# EAGLE library part SM06B-SRSS-TB (library block_parts)
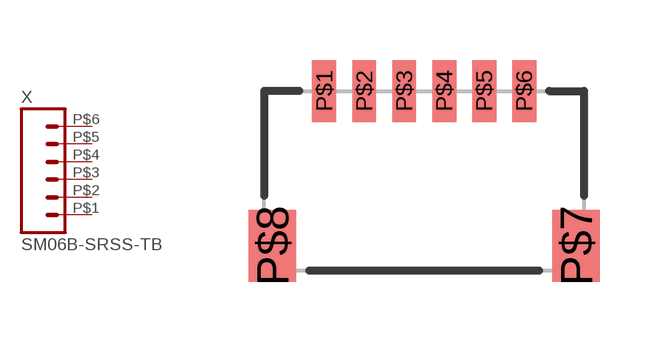
[diagram p1: symbol with the pads of SM06B-SRSS-TB; footprint SM06B-SRSS-TB]

Designator prefix X

## SM06B-SRSS-TB  [SM06B-SRSS-TB]
P$1  1  pas
P$2  2  pas
P$3  3  pas
P$4  4  pas
P$5  5  pas
P$6  6  pas

## Footprint SM06B-SRSS-TB (pad centres in mm)
6 Pin header for JST SH Connectors, part SM06B-SRSS-TB.
smd 0.6 x 1.55: P$1 -2.5,2; P$2 -1.5,2; P$3 -0.5,2; P$4 0.5,2; P$5 1.5,2; P$6 2.5,2
smd 1.2 x 1.8: P$7 3.8,-1.875; P$8 -3.8,-1.875